# Altium footprint library LED_PcbLib.PcbLib: 3 footprints
Each footprint in its own frame and in the unit in brackets; x right, y up, seen from the top. Pads: shape width x height; smd on the part's side, far side on the other; paste and mask are expansions set on the pad; w line width, h text height; cw(c..) or ccw(c..) is an arc to the next point about the centre after c.
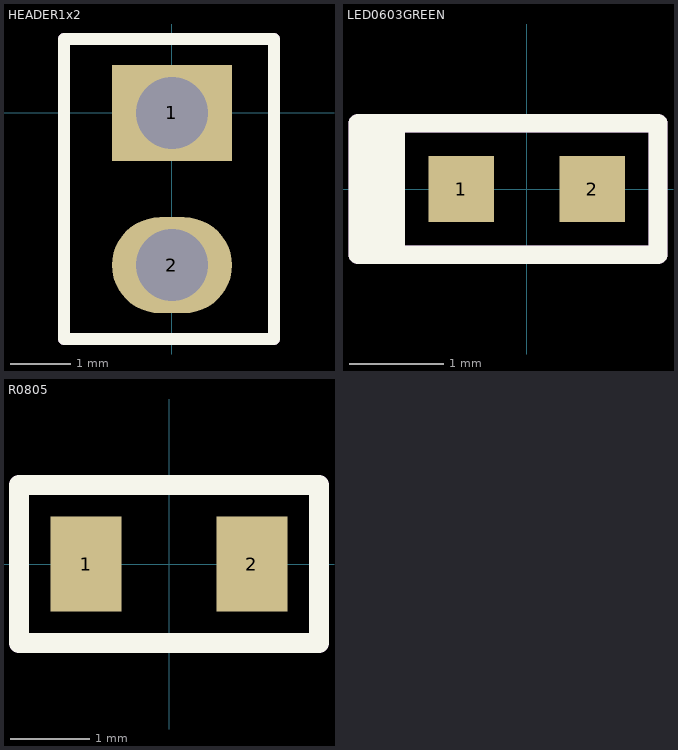
[diagram p0: the footprints below, top view; thin cyan lines are the x and y axes]

## HEADER1x2 [mm]
pads (2):
  rect 2x1.6 hole 1.2: 1(0,0)
  oval 2x1.6 hole 1.2: 2(0,-2.54)
Top Overlay:
  lines w0.2: -1.8,-3.77 -1.8,1.23 1.7,1.23 1.7,-3.77 -1.8,-3.77
Top Assembly:
  lines w0.2: -1.8,-3.77 -1.8,1.23 1.7,1.23 1.7,-3.77 -1.8,-3.77
  text "'.Designator'" at -8.9,-2.667 h1.2

## LED0603GREEN [mm]
pads (2):
  rect 0.7x0.7 smd: 1(-0.7,0) 2(0.7,0)
Top Overlay:
  rectangle: -1.8,-0.7 -1.3,0.7
  lines w0.2: -1.8,-0.7 -1.8,0.7 1.4,0.7 1.4,-0.7 -1.8,-0.7
Top Assembly:
  rectangle: -1.8,-0.7 -1.3,0.7
  lines w0.2: -1.8,-0.7 -1.8,0.7 1.4,0.7 1.4,-0.7 -1.8,-0.7
  text "'.Designator'" at -4.065,-0.625 h0.7
3D body "LSM0603XXXV.STEP": height 0.59, standoff 0.01, extent -0.8,-0.4 0.8,0.4

## R0805 [mm]
pads (2):
  rect 0.9x1.2 smd: 1(-1.05,0) 2(1.05,0)
Top Overlay:
  lines w0.254: -1.9,-1 -1.9,1 1.9,1 1.9,-1 -1.9,-1
Top Assembly:
  lines w0.254: -1.9,-1 -1.9,1 1.9,1 1.9,-1 -1.9,-1
  text "'.Designator'" at -4.065,-0.625 h0.7
3D body "RC0805FR-07360RL.STEP": height 0.61, standoff 0.01, extent -1,-0.625 1,0.625